# EAGLE library part 3PDT (library switches)
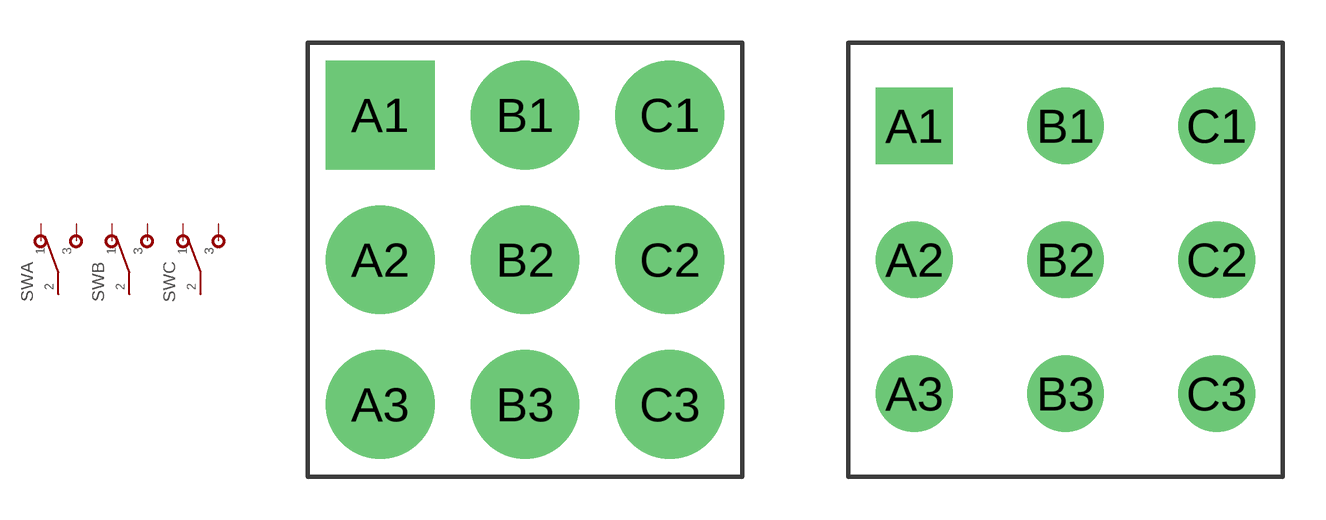
[diagram p4: symbol with the pads of 3PDT; footprints 3PDT, 3PDT_PCM]

Designator prefix SW; gates A=SPDT B=SPDT C=SPDT

## 3PDT  [3PDT]
A1  A:1  pas
A2  A:2  pas
A3  A:3  pas
B1  B:1  pas
B2  B:2  pas
B3  B:3  pas
C1  C:1  pas
C2  C:2  pas
C3  C:3  pas

## 3PDT3PDT_PCM  [3PDT_PCM]
Pads as for 3PDT

## 3PDTPADS  [3PDTPADS]
Pads as for 3PDT

## 3PDTTOGGLE  [3PDT2]
Pads as for 3PDT

## Footprint 3PDT (pad centres in mm)
drill 2.8 square: A1 -5.08,5.08
drill 2.8: A2 -5.08,0; A3 -5.08,-5.08; B1 0,5.08; B2 0,0; B3 0,-5.08; C1 5.08,5.08; C2 5.08,0; C3 5.08,-5.08

## Footprint 3PDT_PCM (pad centres in mm)
drill 1.8 pad 2.54 square: A1 -5.3,4.7
drill 1.8 pad 2.54: A2 -5.3,0; A3 -5.3,-4.7; B1 0,4.7; B2 0,0; B3 0,-4.7; C1 5.3,4.7; C2 5.3,0; C3 5.3,-4.7

## Footprint 3PDTPADS (pad centres in mm)
drill 1.2 pad 2.032 square: A1 -10.16,0
drill 1.2 pad 2.032: A2 -7.62,0; A3 -5.08,0; B1 -2.54,0; B2 0,0; B3 2.54,0; C1 5.08,0; C2 7.62,0; C3 10.16,0

## Footprint 3PDT2 (pad centres in mm)
drill 2.4 square: A1 -4.83,4.7
drill 2.4: A2 -4.83,0; A3 -4.83,-4.7; B1 0,4.7; B2 0,0; B3 0,-4.7; C1 4.83,4.7; C2 4.83,0; C3 4.83,-4.7